# Altium integrated library Maxim Power Mgt Supervisory Circuit.IntLib: 756 symbols (part 15 of 16)
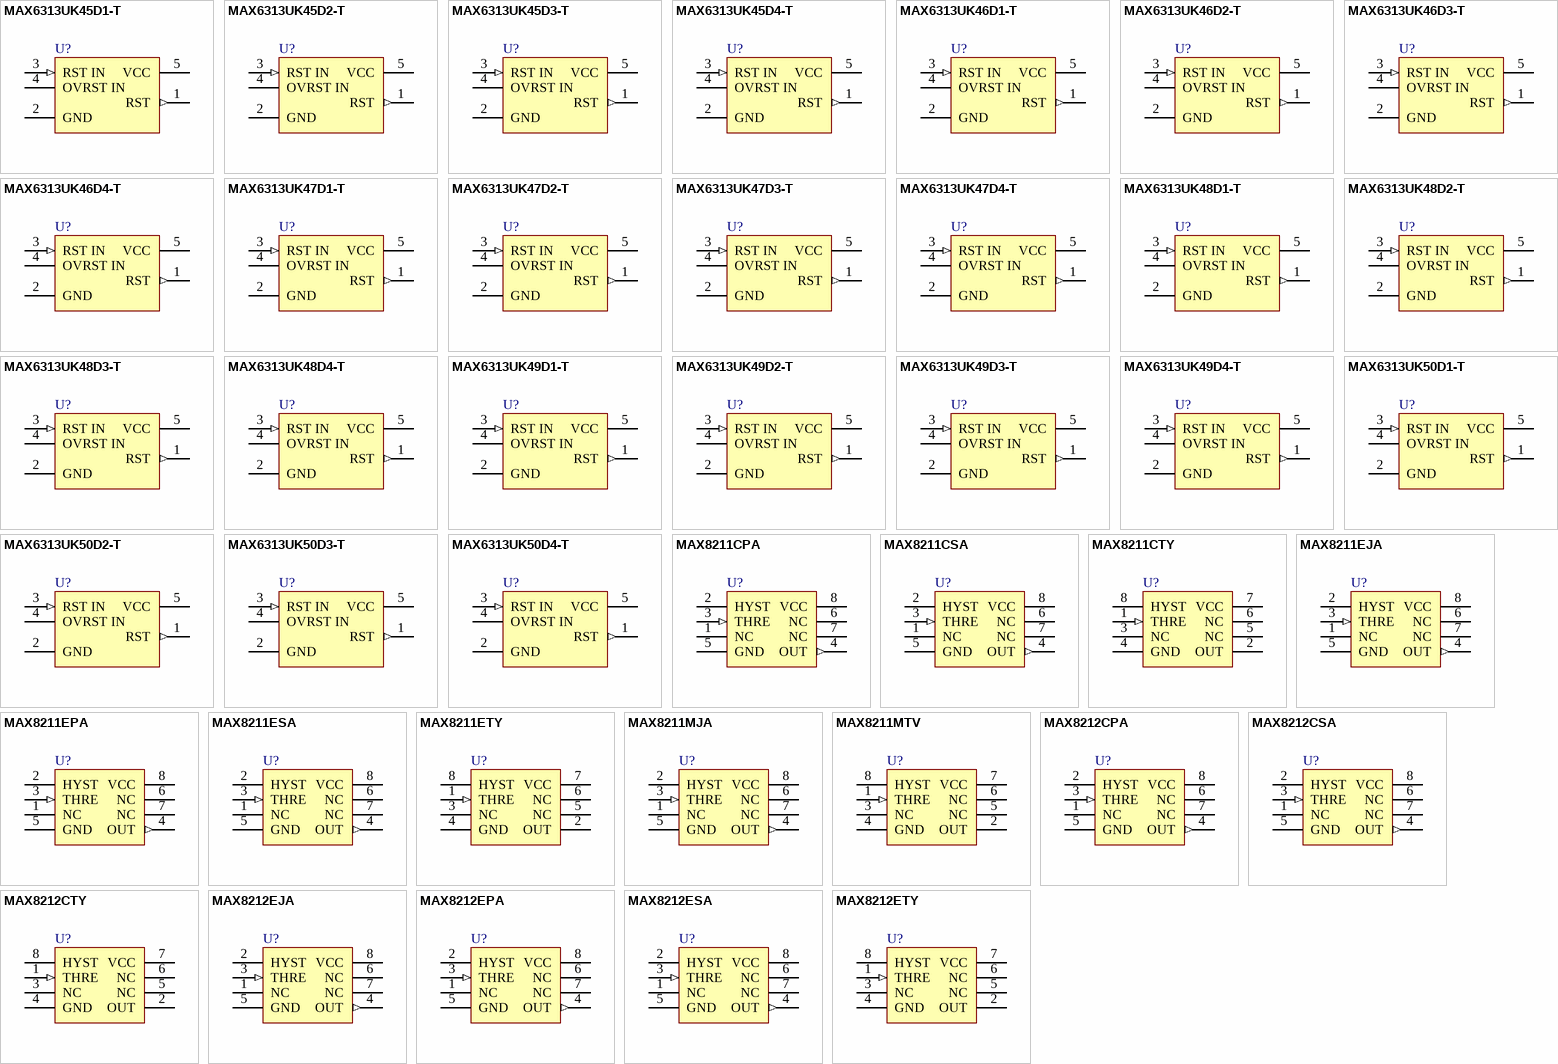
[diagram p32: symbols MAX6313UK45D1-T to MAX8212ETY]

## MAX6313UK50D4-T
designator U?
5-Pin, Multiple-Input, Programmable Reset IC; Published: 16-Jan-2001; LatestRevisionDate: 29-May-2009; LatestRevisionNote: IPC-7351 Footprint Added.; DatasheetVersion: Aug-1998; PackageVersion: revE, 2004; PackageReference: SOT23-5; Publisher: Altium Limited; PackageDescription: 5-Pin SOT-23 Package 0.95 mm Pitch, 2.8 mm Lead Span; Code_JEITA: SC-74A; Code_IPC: SOT23-5; ComponentLink1Description: Manufacturer Link; ComponentLink1URL: http://www.maxim-ic.com/; ComponentLink2Description: Datasheet; ComponentLink2URL: http://pdfserv.maxim-ic.com/en/ds/MAX6305-MAX6313.pdf
footprint SOT23-5_N (SOT23, 5-Leads, Body 2.9x1.6mm, Pitch 0.95mm, Lead Span 2.8mm, IPC Medium Density)
footprint SOT23-5_L (SOT23, 5-Leads, Body 2.9x1.6mm, Pitch 0.95mm, Lead Span 2.8mm, IPC High Density)
footprint SOT23-5_M (SOT23, 5-Leads, Body 2.9x1.6mm, Pitch 0.95mm, Lead Span 2.8mm, IPC Low Density)
pins: 1 RST (out), 2 GND (power), 3 RST IN (in), 4 OVRST IN, 5 VCC (power)

## MAX8211CPA
designator U?
Microprocessor Voltage Monitor with Programmable Voltage Detection; Published: 16-Jan-2001; LatestRevisionDate: 29-May-2009; LatestRevisionNote: Component Body Added.; DatasheetVersion: Jan-1995; PackageVersion: RevB, 21-0043; PackageReference: PA8; Publisher: Altium Limited; PackageDescription: DIP, 8-Pin, Row Spacing 7.62 mm, Pitch 2.54 mm; Code_JEDEC: MS-001-AB; ComponentLink1Description: Manufacturer Link; ComponentLink1URL: http://www.maxim-ic.com/; ComponentLink2Description: Datasheet; ComponentLink2URL: http://pdfserv.maxim-ic.com/en/ds/MAX8211-MAX8212.pdf
footprint PA8 (DIP, 8-Leads, Row Spacing 7.62mm, Pitch 2.54mm, Body 9.38x7.24mm)
3D model PA8 (DIP, 8-Pin, Row Spacing 7.62 mm, Pitch 2.54 mm)
pins: 1 NC, 2 HYST (oe), 3 THRE (in), 4 OUT (out), 5 GND (power), 6 NC, 7 NC, 8 VCC (power)

## MAX8211CSA
designator U?
Microprocessor Voltage Monitor with Programmable Voltage Detection; Published: 16-Jan-2001; LatestRevisionDate: 13-Apr-2006; LatestRevisionNote: IPC-7351 Footprint Added.; DatasheetVersion: Jan-1995; PackageReference: NSO8; Publisher: Altium Limited; PackageDescription: 8-Pin Small Outline Integrated Circuit 1.27 mm Pitch; Code_JEDEC: MS-012-AA; Code_IPC: SOIC127P600-8; ComponentLink1Description: Manufacturer Link; ComponentLink1URL: http://www.maxim-ic.com/; ComponentLink2Description: Datasheet; ComponentLink2URL: http://pdfserv.maxim-ic.com/en/ds/MAX8211-MAX8212.pdf
footprint NSO8_N (SOIC, 8-Leads, Body 4.9x3.9mm, Pitch 1.27mm, IPC Medium Density)
footprint NSO8_L (SOIC, 8-Leads, Body 4.9x3.9mm, Pitch 1.27mm, IPC High Density)
footprint NSO8_M (SOIC, 8-Leads, Body 4.9x3.9mm, Pitch 1.27mm, IPC Low Density)
3D model NSO8 (8-Pin Small Outline Integrated Circuit 1.27 mm Pitch)
pins: 1 NC, 2 HYST (oe), 3 THRE (in), 4 OUT (out), 5 GND (power), 6 NC, 7 NC, 8 VCC (power)

## MAX8211CTY
designator U?
Microprocessor Voltage Monitor with Programmable Voltage Detection; Published: 16-Jan-2001; LatestRevisionDate: 17-Jul-2002; LatestRevisionNote: Re-released for DXP Platform.; DatasheetVersion: Jan-1995; PackageVersion: 1995; PackageReference: TO-99; Publisher: Altium Limited; PackageDescription: Can; 8 Leads; Pin Circle Dia. 5.08 mm; Lead Dia. 0.48 mm (max); ComponentLink1Description: Manufacturer Link; ComponentLink1URL: http://www.maxim-ic.com/; ComponentLink2Description: Datasheet; ComponentLink2URL: http://pdfserv.maxim-ic.com/en/ds/MAX8211-MAX8212.pdf
footprint TO-99 (Can; 8 Leads; Pin Circle Dia. 5.08 mm; Lead Dia. 0.48 mm (max))
pins: 1 THRE (in), 2 OUT (oc), 3 NC, 4 GND (power), 5 NC, 6 NC, 7 VCC (power), 8 HYST (oe)

## MAX8211EJA
designator U?
Microprocessor Voltage Monitor with Programmable Voltage Detection; Published: 16-Jan-2001; LatestRevisionDate: 29-May-2009; LatestRevisionNote: Component Body Added.; DatasheetVersion: Jan-1995; PackageVersion: 1996; PackageReference: JA8; Publisher: Altium Limited; PackageDescription: DIP, 8-Pin, Row Spacing 7.62 mm, Pitch 2.54 mm; ComponentLink1Description: Manufacturer Link; ComponentLink1URL: http://www.maxim-ic.com/; ComponentLink2Description: Datasheet; ComponentLink2URL: http://pdfserv.maxim-ic.com/en/ds/MAX8211-MAX8212.pdf
footprint JA8 (DIP, 8-Leads, Row Spacing 7.62mm, Pitch 2.54mm, Body 9.91x6.73mm)
3D model PA8 (DIP, 8-Pin, Row Spacing 7.62 mm, Pitch 2.54 mm)
pins: 1 NC, 2 HYST (oe), 3 THRE (in), 4 OUT (out), 5 GND (power), 6 NC, 7 NC, 8 VCC (power)

## MAX8211EPA
designator U?
Microprocessor Voltage Monitor with Programmable Voltage Detection; Published: 16-Jan-2001; LatestRevisionDate: 29-May-2009; LatestRevisionNote: Component Body Added.; DatasheetVersion: Jan-1995; PackageVersion: RevB, 21-0043; PackageReference: PA8; Publisher: Altium Limited; PackageDescription: DIP, 8-Pin, Row Spacing 7.62 mm, Pitch 2.54 mm; Code_JEDEC: MS-001-AB; ComponentLink1Description: Manufacturer Link; ComponentLink1URL: http://www.maxim-ic.com/; ComponentLink2Description: Datasheet; ComponentLink2URL: http://pdfserv.maxim-ic.com/en/ds/MAX8211-MAX8212.pdf
footprint PA8 (DIP, 8-Leads, Row Spacing 7.62mm, Pitch 2.54mm, Body 9.38x7.24mm)
3D model PA8 (DIP, 8-Pin, Row Spacing 7.62 mm, Pitch 2.54 mm)
pins: 1 NC, 2 HYST (oe), 3 THRE (in), 4 OUT (out), 5 GND (power), 6 NC, 7 NC, 8 VCC (power)

## MAX8211ESA
designator U?
Microprocessor Voltage Monitor with Programmable Voltage Detection; Published: 16-Jan-2001; LatestRevisionDate: 13-Apr-2006; LatestRevisionNote: IPC-7351 Footprint Added.; DatasheetVersion: Jan-1995; PackageReference: NSO8; Publisher: Altium Limited; PackageDescription: 8-Pin Small Outline Integrated Circuit 1.27 mm Pitch; Code_JEDEC: MS-012-AA; Code_IPC: SOIC127P600-8; ComponentLink1Description: Manufacturer Link; ComponentLink1URL: http://www.maxim-ic.com/; ComponentLink2Description: Datasheet; ComponentLink2URL: http://pdfserv.maxim-ic.com/en/ds/MAX8211-MAX8212.pdf
footprint NSO8_N (SOIC, 8-Leads, Body 4.9x3.9mm, Pitch 1.27mm, IPC Medium Density)
footprint NSO8_L (SOIC, 8-Leads, Body 4.9x3.9mm, Pitch 1.27mm, IPC High Density)
footprint NSO8_M (SOIC, 8-Leads, Body 4.9x3.9mm, Pitch 1.27mm, IPC Low Density)
3D model NSO8 (8-Pin Small Outline Integrated Circuit 1.27 mm Pitch)
pins: 1 NC, 2 HYST (oe), 3 THRE (in), 4 OUT (out), 5 GND (power), 6 NC, 7 NC, 8 VCC (power)

## MAX8211ETY
designator U?
Microprocessor Voltage Monitor with Programmable Voltage Detection; Published: 16-Jan-2001; LatestRevisionDate: 17-Jul-2002; LatestRevisionNote: Re-released for DXP Platform.; DatasheetVersion: Jan-1995; PackageVersion: 1995; PackageReference: TO-99; Publisher: Altium Limited; PackageDescription: Can; 8 Leads; Pin Circle Dia. 5.08 mm; Lead Dia. 0.48 mm (max); ComponentLink1Description: Manufacturer Link; ComponentLink1URL: http://www.maxim-ic.com/; ComponentLink2Description: Datasheet; ComponentLink2URL: http://pdfserv.maxim-ic.com/en/ds/MAX8211-MAX8212.pdf
footprint TO-99 (Can; 8 Leads; Pin Circle Dia. 5.08 mm; Lead Dia. 0.48 mm (max))
pins: 1 THRE (in), 2 OUT (oc), 3 NC, 4 GND (power), 5 NC, 6 NC, 7 VCC (power), 8 HYST (oe)

## MAX8211MJA
designator U?
Microprocessor Voltage Monitor with Programmable Voltage Detection; Published: 16-Jan-2001; LatestRevisionDate: 29-May-2009; LatestRevisionNote: Component Body Added.; DatasheetVersion: Jan-1995; PackageVersion: 1996; PackageReference: JA8; Publisher: Altium Limited; PackageDescription: DIP, 8-Pin, Row Spacing 7.62 mm, Pitch 2.54 mm; ComponentLink1Description: Manufacturer Link; ComponentLink1URL: http://www.maxim-ic.com/; ComponentLink2Description: Datasheet; ComponentLink2URL: http://pdfserv.maxim-ic.com/en/ds/MAX8211-MAX8212.pdf
footprint JA8 (DIP, 8-Leads, Row Spacing 7.62mm, Pitch 2.54mm, Body 9.91x6.73mm)
3D model PA8 (DIP, 8-Pin, Row Spacing 7.62 mm, Pitch 2.54 mm)
pins: 1 NC, 2 HYST (oe), 3 THRE (in), 4 OUT (out), 5 GND (power), 6 NC, 7 NC, 8 VCC (power)

## MAX8211MTV
designator U?
Microprocessor Voltage Monitor with Programmable Voltage Detection; Published: 16-Jan-2001; LatestRevisionDate: 17-Jul-2002; LatestRevisionNote: Re-released for DXP Platform.; DatasheetVersion: Jan-1995; PackageVersion: 1995; PackageReference: TO-99; Publisher: Altium Limited; PackageDescription: Can; 8 Leads; Pin Circle Dia. 5.08 mm; Lead Dia. 0.48 mm (max); ComponentLink1Description: Manufacturer Link; ComponentLink1URL: http://www.maxim-ic.com/; ComponentLink2Description: Datasheet; ComponentLink2URL: http://pdfserv.maxim-ic.com/en/ds/MAX8211-MAX8212.pdf
footprint TO-99 (Can; 8 Leads; Pin Circle Dia. 5.08 mm; Lead Dia. 0.48 mm (max))
pins: 1 THRE (in), 2 OUT (oc), 3 NC, 4 GND (power), 5 NC, 6 NC, 7 VCC (power), 8 HYST (oe)

## MAX8212CPA
designator U?
Microprocessor Voltage Monitor with Programmable Voltage Detection; Published: 16-Jan-2001; LatestRevisionDate: 29-May-2009; LatestRevisionNote: Component Body Added.; DatasheetVersion: Jan-1995; PackageVersion: RevB, 21-0043; PackageReference: PA8; Publisher: Altium Limited; PackageDescription: DIP, 8-Pin, Row Spacing 7.62 mm, Pitch 2.54 mm; Code_JEDEC: MS-001-AB; ComponentLink1Description: Manufacturer Link; ComponentLink1URL: http://www.maxim-ic.com/; ComponentLink2Description: Datasheet; ComponentLink2URL: http://pdfserv.maxim-ic.com/en/ds/MAX8211-MAX8212.pdf
footprint PA8 (DIP, 8-Leads, Row Spacing 7.62mm, Pitch 2.54mm, Body 9.38x7.24mm)
3D model PA8 (DIP, 8-Pin, Row Spacing 7.62 mm, Pitch 2.54 mm)
pins: 1 NC, 2 HYST (oe), 3 THRE (in), 4 OUT (out), 5 GND (power), 6 NC, 7 NC, 8 VCC (power)

## MAX8212CSA
designator U?
Microprocessor Voltage Monitor with Programmable Voltage Detection; Published: 16-Jan-2001; LatestRevisionDate: 13-Apr-2006; LatestRevisionNote: IPC-7351 Footprint Added.; DatasheetVersion: Jan-1995; PackageReference: NSO8; Publisher: Altium Limited; PackageDescription: 8-Pin Small Outline Integrated Circuit 1.27 mm Pitch; Code_JEDEC: MS-012-AA; Code_IPC: SOIC127P600-8; ComponentLink1Description: Manufacturer Link; ComponentLink1URL: http://www.maxim-ic.com/; ComponentLink2Description: Datasheet; ComponentLink2URL: http://pdfserv.maxim-ic.com/en/ds/MAX8211-MAX8212.pdf
footprint NSO8_N (SOIC, 8-Leads, Body 4.9x3.9mm, Pitch 1.27mm, IPC Medium Density)
footprint NSO8_L (SOIC, 8-Leads, Body 4.9x3.9mm, Pitch 1.27mm, IPC High Density)
footprint NSO8_M (SOIC, 8-Leads, Body 4.9x3.9mm, Pitch 1.27mm, IPC Low Density)
3D model NSO8 (8-Pin Small Outline Integrated Circuit 1.27 mm Pitch)
pins: 1 NC, 2 HYST (oe), 3 THRE (in), 4 OUT (out), 5 GND (power), 6 NC, 7 NC, 8 VCC (power)

## MAX8212CTY
designator U?
Microprocessor Voltage Monitor with Programmable Voltage Detection; Published: 16-Jan-2001; LatestRevisionDate: 17-Jul-2002; LatestRevisionNote: Re-released for DXP Platform.; DatasheetVersion: Jan-1995; PackageVersion: 1995; PackageReference: TO-99; Publisher: Altium Limited; PackageDescription: Can; 8 Leads; Pin Circle Dia. 5.08 mm; Lead Dia. 0.48 mm (max); ComponentLink1Description: Manufacturer Link; ComponentLink1URL: http://www.maxim-ic.com/; ComponentLink2Description: Datasheet; ComponentLink2URL: http://pdfserv.maxim-ic.com/en/ds/MAX8211-MAX8212.pdf
footprint TO-99 (Can; 8 Leads; Pin Circle Dia. 5.08 mm; Lead Dia. 0.48 mm (max))
pins: 1 THRE (in), 2 OUT (oc), 3 NC, 4 GND (power), 5 NC, 6 NC, 7 VCC (power), 8 HYST (oe)

## MAX8212EJA
designator U?
Microprocessor Voltage Monitor with Programmable Voltage Detection; Published: 16-Jan-2001; LatestRevisionDate: 29-May-2009; LatestRevisionNote: Component Body Added.; DatasheetVersion: Jan-1995; PackageVersion: 1996; PackageReference: JA8; Publisher: Altium Limited; PackageDescription: DIP, 8-Pin, Row Spacing 7.62 mm, Pitch 2.54 mm; ComponentLink1Description: Manufacturer Link; ComponentLink1URL: http://www.maxim-ic.com/; ComponentLink2Description: Datasheet; ComponentLink2URL: http://pdfserv.maxim-ic.com/en/ds/MAX8211-MAX8212.pdf
footprint JA8 (DIP, 8-Leads, Row Spacing 7.62mm, Pitch 2.54mm, Body 9.91x6.73mm)
3D model PA8 (DIP, 8-Pin, Row Spacing 7.62 mm, Pitch 2.54 mm)
pins: 1 NC, 2 HYST (oe), 3 THRE (in), 4 OUT (out), 5 GND (power), 6 NC, 7 NC, 8 VCC (power)

## MAX8212EPA
designator U?
Microprocessor Voltage Monitor with Programmable Voltage Detection; Published: 16-Jan-2001; LatestRevisionDate: 29-May-2009; LatestRevisionNote: Component Body Added.; DatasheetVersion: Jan-1995; PackageVersion: RevB, 21-0043; PackageReference: PA8; Publisher: Altium Limited; PackageDescription: DIP, 8-Pin, Row Spacing 7.62 mm, Pitch 2.54 mm; Code_JEDEC: MS-001-AB; ComponentLink1Description: Manufacturer Link; ComponentLink1URL: http://www.maxim-ic.com/; ComponentLink2Description: Datasheet; ComponentLink2URL: http://pdfserv.maxim-ic.com/en/ds/MAX8211-MAX8212.pdf
footprint PA8 (DIP, 8-Leads, Row Spacing 7.62mm, Pitch 2.54mm, Body 9.38x7.24mm)
3D model PA8 (DIP, 8-Pin, Row Spacing 7.62 mm, Pitch 2.54 mm)
pins: 1 NC, 2 HYST (oe), 3 THRE (in), 4 OUT (out), 5 GND (power), 6 NC, 7 NC, 8 VCC (power)

## MAX8212ESA
designator U?
Microprocessor Voltage Monitor with Programmable Voltage Detection; Published: 16-Jan-2001; LatestRevisionDate: 13-Apr-2006; LatestRevisionNote: IPC-7351 Footprint Added.; DatasheetVersion: Jan-1995; PackageReference: NSO8; Publisher: Altium Limited; PackageDescription: 8-Pin Small Outline Integrated Circuit 1.27 mm Pitch; Code_JEDEC: MS-012-AA; Code_IPC: SOIC127P600-8; ComponentLink1Description: Manufacturer Link; ComponentLink1URL: http://www.maxim-ic.com/; ComponentLink2Description: Datasheet; ComponentLink2URL: http://pdfserv.maxim-ic.com/en/ds/MAX8211-MAX8212.pdf
footprint NSO8_N (SOIC, 8-Leads, Body 4.9x3.9mm, Pitch 1.27mm, IPC Medium Density)
footprint NSO8_L (SOIC, 8-Leads, Body 4.9x3.9mm, Pitch 1.27mm, IPC High Density)
footprint NSO8_M (SOIC, 8-Leads, Body 4.9x3.9mm, Pitch 1.27mm, IPC Low Density)
3D model NSO8 (8-Pin Small Outline Integrated Circuit 1.27 mm Pitch)
pins: 1 NC, 2 HYST (oe), 3 THRE (in), 4 OUT (out), 5 GND (power), 6 NC, 7 NC, 8 VCC (power)

## MAX8212ETY
designator U?
Microprocessor Voltage Monitor with Programmable Voltage Detection; Published: 16-Jan-2001; LatestRevisionDate: 17-Jul-2002; LatestRevisionNote: Re-released for DXP Platform.; DatasheetVersion: Jan-1995; PackageVersion: 1995; PackageReference: TO-99; Publisher: Altium Limited; PackageDescription: Can; 8 Leads; Pin Circle Dia. 5.08 mm; Lead Dia. 0.48 mm (max); ComponentLink1Description: Manufacturer Link; ComponentLink1URL: http://www.maxim-ic.com/; ComponentLink2Description: Datasheet; ComponentLink2URL: http://pdfserv.maxim-ic.com/en/ds/MAX8211-MAX8212.pdf
footprint TO-99 (Can; 8 Leads; Pin Circle Dia. 5.08 mm; Lead Dia. 0.48 mm (max))
pins: 1 THRE (in), 2 OUT (oc), 3 NC, 4 GND (power), 5 NC, 6 NC, 7 VCC (power), 8 HYST (oe)

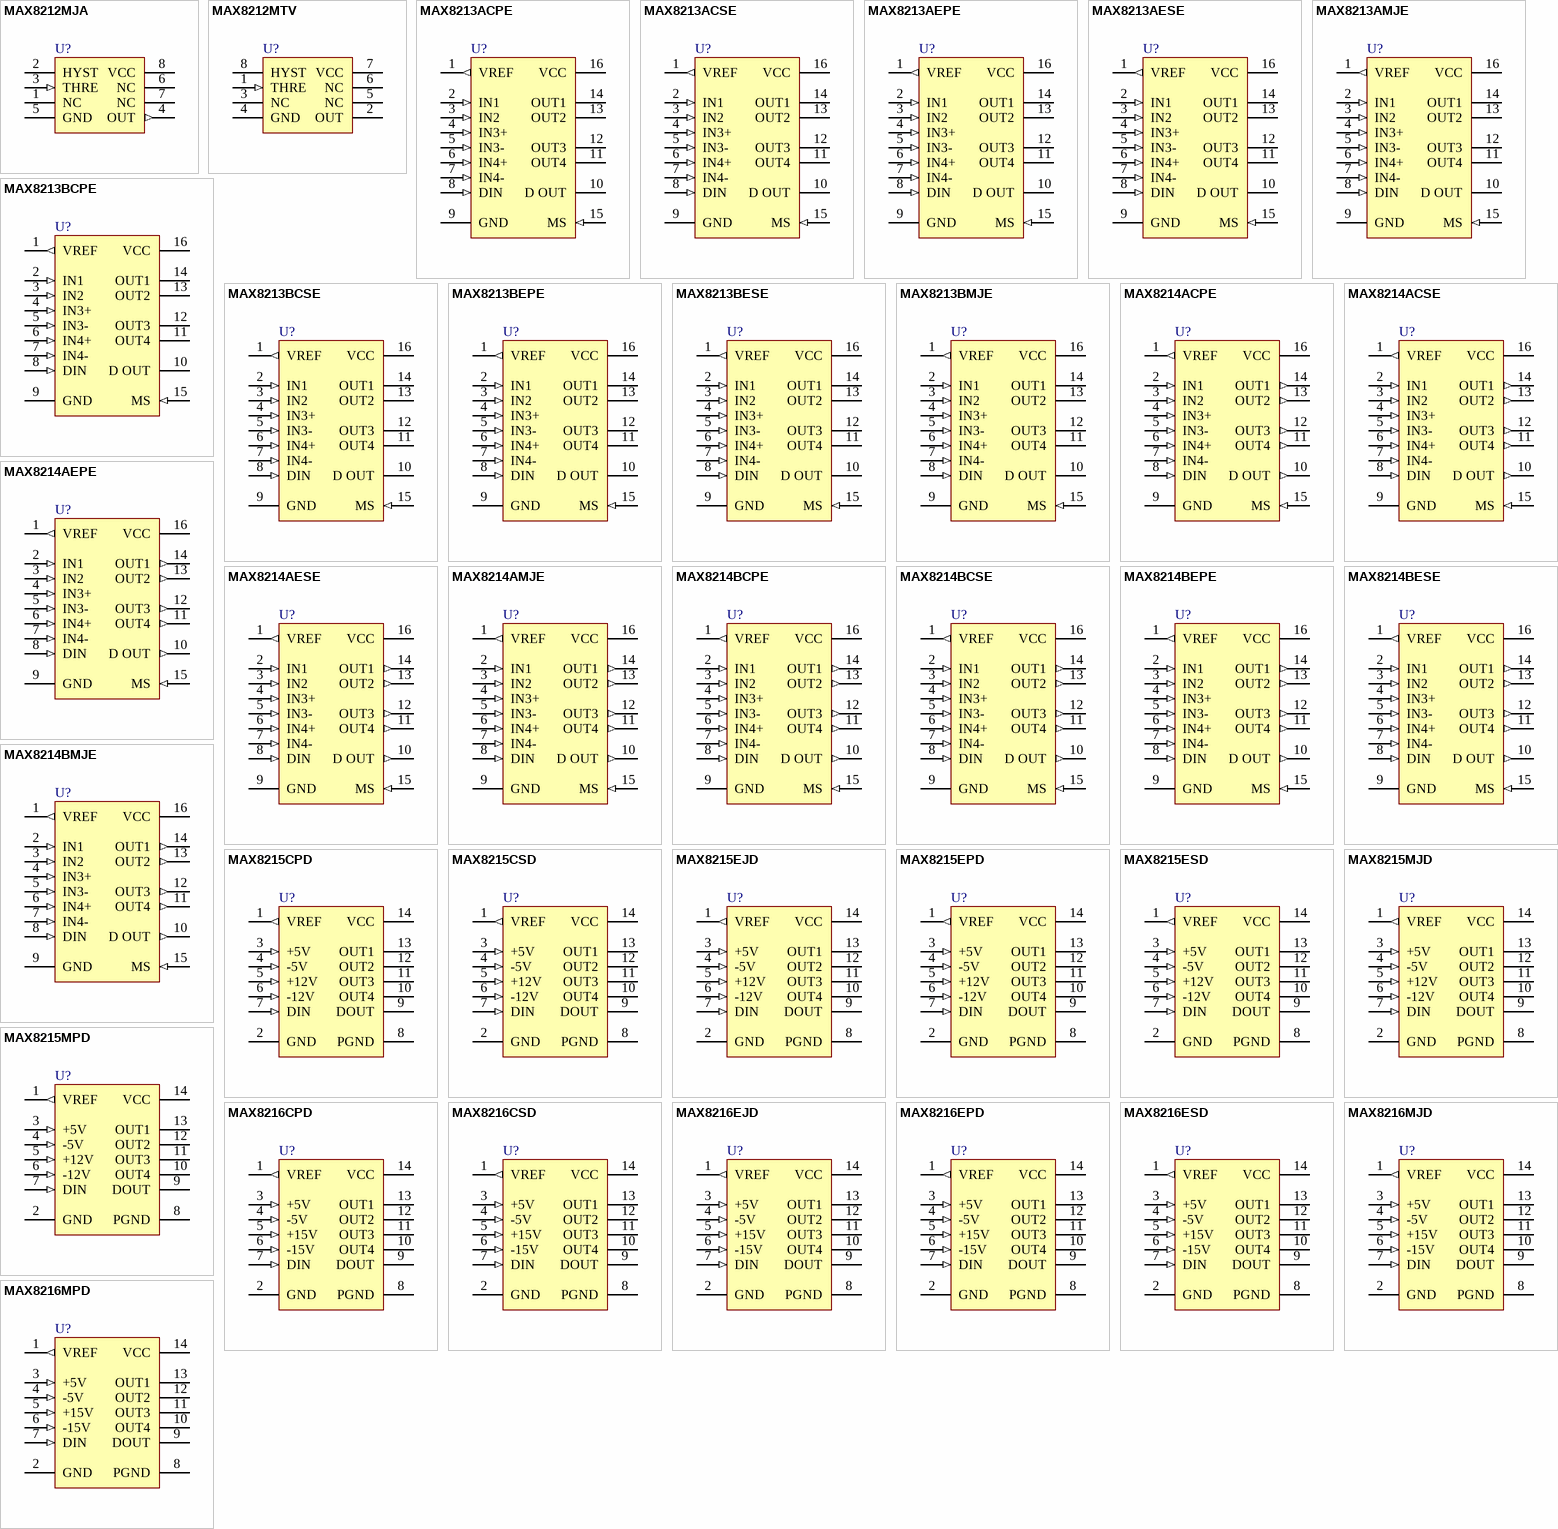
[diagram p18: symbols MAX8212MJA to MAX8216MPD]

## MAX8212MJA
designator U?
Microprocessor Voltage Monitor with Programmable Voltage Detection; Published: 16-Jan-2001; LatestRevisionDate: 29-May-2009; LatestRevisionNote: Component Body Added.; DatasheetVersion: Jan-1995; PackageVersion: 1996; PackageReference: JA8; Publisher: Altium Limited; PackageDescription: DIP, 8-Pin, Row Spacing 7.62 mm, Pitch 2.54 mm; ComponentLink1Description: Manufacturer Link; ComponentLink1URL: http://www.maxim-ic.com/; ComponentLink2Description: Datasheet; ComponentLink2URL: http://pdfserv.maxim-ic.com/en/ds/MAX8211-MAX8212.pdf
footprint JA8 (DIP, 8-Leads, Row Spacing 7.62mm, Pitch 2.54mm, Body 9.91x6.73mm)
3D model PA8 (DIP, 8-Pin, Row Spacing 7.62 mm, Pitch 2.54 mm)
pins: 1 NC, 2 HYST (oe), 3 THRE (in), 4 OUT (out), 5 GND (power), 6 NC, 7 NC, 8 VCC (power)

## MAX8212MTV
designator U?
Microprocessor Voltage Monitor with Programmable Voltage Detection; Published: 16-Jan-2001; LatestRevisionDate: 17-Jul-2002; LatestRevisionNote: Re-released for DXP Platform.; DatasheetVersion: Jan-1995; PackageVersion: 1995; PackageReference: TO-99; Publisher: Altium Limited; PackageDescription: Can; 8 Leads; Pin Circle Dia. 5.08 mm; Lead Dia. 0.48 mm (max); ComponentLink1Description: Manufacturer Link; ComponentLink1URL: http://www.maxim-ic.com/; ComponentLink2Description: Datasheet; ComponentLink2URL: http://pdfserv.maxim-ic.com/en/ds/MAX8211-MAX8212.pdf
footprint TO-99 (Can; 8 Leads; Pin Circle Dia. 5.08 mm; Lead Dia. 0.48 mm (max))
pins: 1 THRE (in), 2 OUT (oc), 3 NC, 4 GND (power), 5 NC, 6 NC, 7 VCC (power), 8 HYST (oe)

## MAX8213ACPE
designator U?
Five Universal Voltage Monitors-Complete Microprocessor Voltage Monitoring; Published: 16-Jan-2001; LatestRevisionDate: 29-May-2009; LatestRevisionNote: Component Body Added.; DatasheetVersion: Jul-1993; PackageVersion: 1997; PackageReference: PE16A; Publisher: Altium Limited; PackageDescription: DIP, 16-Pin, Row Spacing 7.62 mm, Pitch 2.54 mm; Code_JEDEC: MS-001-BB; ComponentLink1Description: Manufacturer Link; ComponentLink1URL: http://www.maxim-ic.com/; ComponentLink2Description: Datasheet; ComponentLink2URL: http://pdfserv.maxim-ic.com/en/ds/MAX8213-MAX8214.pdf
footprint PE16A (DIP, 16-Leads, Row Spacing 7.62mm, Pitch 2.54mm, Body 19.18x6.99mm)
3D model PE16 (DIP, 16-Pin, Row Spacing 7.62 mm, Pitch 2.54 mm)
pins: 1 VREF (out), 2 IN1 (in), 3 IN2 (in), 4 IN3+ (in), 5 IN3- (in), 6 IN4+ (in), 7 IN4- (in), 8 DIN (in), 9 GND (power), 10 D OUT (oc), 11 OUT4 (oc), 12 OUT3 (oc), 13 OUT2 (oc), 14 OUT1 (oc), 15 MS (in), 16 VCC (power)

## MAX8213ACSE
designator U?
Five Universal Voltage Monitors-Complete Microprocessor Voltage Monitoring; Published: 16-Jan-2001; LatestRevisionDate: 13-Apr-2006; LatestRevisionNote: IPC-7351 Footprint Added.; DatasheetVersion: Jul-1993; PackageReference: NSO16; Publisher: Altium Limited; PackageDescription: 16-Pin Small Outline Integrated Circuit 1.27 mm Pitch; Code_JEDEC: MS-012-AC; Code_IPC: SOIC127P600-16; ComponentLink1Description: Manufacturer Link; ComponentLink1URL: http://www.maxim-ic.com/; ComponentLink2Description: Datasheet; ComponentLink2URL: http://pdfserv.maxim-ic.com/en/ds/MAX8213-MAX8214.pdf
footprint NSO16_N (SOIC, 16-Leads, Body 9.9x3.9mm, Pitch 1.27mm, IPC Medium Density)
footprint NSO16_L (SOIC, 16-Leads, Body 9.9x3.9mm, Pitch 1.27mm, IPC High Density)
footprint NSO16_M (SOIC, 16-Leads, Body 9.9x3.9mm, Pitch 1.27mm, IPC Low Density)
3D model NSO16 (16-Pin Small Outline Integrated Circuit 1.27 mm Pitch)
pins: 1 VREF (out), 2 IN1 (in), 3 IN2 (in), 4 IN3+ (in), 5 IN3- (in), 6 IN4+ (in), 7 IN4- (in), 8 DIN (in), 9 GND (power), 10 D OUT (oc), 11 OUT4 (oc), 12 OUT3 (oc), 13 OUT2 (oc), 14 OUT1 (oc), 15 MS (in), 16 VCC (power)

## MAX8213AEPE
designator U?
Five Universal Voltage Monitors-Complete Microprocessor Voltage Monitoring; Published: 16-Jan-2001; LatestRevisionDate: 29-May-2009; LatestRevisionNote: Component Body Added.; DatasheetVersion: Jul-1993; PackageVersion: 1997; PackageReference: PE16A; Publisher: Altium Limited; PackageDescription: DIP, 16-Pin, Row Spacing 7.62 mm, Pitch 2.54 mm; Code_JEDEC: MS-001-BB; ComponentLink1Description: Manufacturer Link; ComponentLink1URL: http://www.maxim-ic.com/; ComponentLink2Description: Datasheet; ComponentLink2URL: http://pdfserv.maxim-ic.com/en/ds/MAX8213-MAX8214.pdf
footprint PE16A (DIP, 16-Leads, Row Spacing 7.62mm, Pitch 2.54mm, Body 19.18x6.99mm)
3D model PE16 (DIP, 16-Pin, Row Spacing 7.62 mm, Pitch 2.54 mm)
pins: 1 VREF (out), 2 IN1 (in), 3 IN2 (in), 4 IN3+ (in), 5 IN3- (in), 6 IN4+ (in), 7 IN4- (in), 8 DIN (in), 9 GND (power), 10 D OUT (oc), 11 OUT4 (oc), 12 OUT3 (oc), 13 OUT2 (oc), 14 OUT1 (oc), 15 MS (in), 16 VCC (power)

## MAX8213AESE
designator U?
Five Universal Voltage Monitors-Complete Microprocessor Voltage Monitoring; Published: 16-Jan-2001; LatestRevisionDate: 13-Apr-2006; LatestRevisionNote: IPC-7351 Footprint Added.; DatasheetVersion: Jul-1993; PackageReference: NSO16; Publisher: Altium Limited; PackageDescription: 16-Pin Small Outline Integrated Circuit 1.27 mm Pitch; Code_JEDEC: MS-012-AC; Code_IPC: SOIC127P600-16; ComponentLink1Description: Manufacturer Link; ComponentLink1URL: http://www.maxim-ic.com/; ComponentLink2Description: Datasheet; ComponentLink2URL: http://pdfserv.maxim-ic.com/en/ds/MAX8213-MAX8214.pdf
footprint NSO16_N (SOIC, 16-Leads, Body 9.9x3.9mm, Pitch 1.27mm, IPC Medium Density)
footprint NSO16_L (SOIC, 16-Leads, Body 9.9x3.9mm, Pitch 1.27mm, IPC High Density)
footprint NSO16_M (SOIC, 16-Leads, Body 9.9x3.9mm, Pitch 1.27mm, IPC Low Density)
3D model NSO16 (16-Pin Small Outline Integrated Circuit 1.27 mm Pitch)
pins: 1 VREF (out), 2 IN1 (in), 3 IN2 (in), 4 IN3+ (in), 5 IN3- (in), 6 IN4+ (in), 7 IN4- (in), 8 DIN (in), 9 GND (power), 10 D OUT (oc), 11 OUT4 (oc), 12 OUT3 (oc), 13 OUT2 (oc), 14 OUT1 (oc), 15 MS (in), 16 VCC (power)

## MAX8213AMJE
designator U?
Five Universal Voltage Monitors-Complete Microprocessor Voltage Monitoring; Published: 16-Jan-2001; LatestRevisionDate: 29-May-2009; LatestRevisionNote: Component Body Added.; DatasheetVersion: Jul-1993; PackageVersion: 1996; PackageReference: JE16; Publisher: Altium Limited; PackageDescription: DIP, 16-Pin, Row Spacing 7.62 mm, Pitch 2.54 mm; ComponentLink1Description: Manufacturer Link; ComponentLink1URL: http://www.maxim-ic.com/; ComponentLink2Description: Datasheet; ComponentLink2URL: http://pdfserv.maxim-ic.com/en/ds/MAX8213-MAX8214.pdf
footprint JE16 (DIP, 16-Leads, Row Spacing 7.62mm, Pitch 2.54mm, Body 20.37x6.73mm)
3D model JE16 (DIP, 16-Pin, Row Spacing 7.62 mm, Pitch 2.54 mm)
pins: 1 VREF (out), 2 IN1 (in), 3 IN2 (in), 4 IN3+ (in), 5 IN3- (in), 6 IN4+ (in), 7 IN4- (in), 8 DIN (in), 9 GND (power), 10 D OUT (oc), 11 OUT4 (oc), 12 OUT3 (oc), 13 OUT2 (oc), 14 OUT1 (oc), 15 MS (in), 16 VCC (power)

## MAX8213BCPE
designator U?
Five Universal Voltage Monitors-Complete Microprocessor Voltage Monitoring; Published: 16-Jan-2001; LatestRevisionDate: 29-May-2009; LatestRevisionNote: Component Body Added.; DatasheetVersion: Jul-1993; PackageVersion: 1997; PackageReference: PE16A; Publisher: Altium Limited; PackageDescription: DIP, 16-Pin, Row Spacing 7.62 mm, Pitch 2.54 mm; Code_JEDEC: MS-001-BB; ComponentLink1Description: Manufacturer Link; ComponentLink1URL: http://www.maxim-ic.com/; ComponentLink2Description: Datasheet; ComponentLink2URL: http://pdfserv.maxim-ic.com/en/ds/MAX8213-MAX8214.pdf
footprint PE16A (DIP, 16-Leads, Row Spacing 7.62mm, Pitch 2.54mm, Body 19.18x6.99mm)
3D model PE16 (DIP, 16-Pin, Row Spacing 7.62 mm, Pitch 2.54 mm)
pins: 1 VREF (out), 2 IN1 (in), 3 IN2 (in), 4 IN3+ (in), 5 IN3- (in), 6 IN4+ (in), 7 IN4- (in), 8 DIN (in), 9 GND (power), 10 D OUT (oc), 11 OUT4 (oc), 12 OUT3 (oc), 13 OUT2 (oc), 14 OUT1 (oc), 15 MS (in), 16 VCC (power)

## MAX8213BCSE
designator U?
Five Universal Voltage Monitors-Complete Microprocessor Voltage Monitoring; Published: 16-Jan-2001; LatestRevisionDate: 13-Apr-2006; LatestRevisionNote: IPC-7351 Footprint Added.; DatasheetVersion: Jul-1993; PackageReference: NSO16; Publisher: Altium Limited; PackageDescription: 16-Pin Small Outline Integrated Circuit 1.27 mm Pitch; Code_JEDEC: MS-012-AC; Code_IPC: SOIC127P600-16; ComponentLink1Description: Manufacturer Link; ComponentLink1URL: http://www.maxim-ic.com/; ComponentLink2Description: Datasheet; ComponentLink2URL: http://pdfserv.maxim-ic.com/en/ds/MAX8213-MAX8214.pdf
footprint NSO16_N (SOIC, 16-Leads, Body 9.9x3.9mm, Pitch 1.27mm, IPC Medium Density)
footprint NSO16_L (SOIC, 16-Leads, Body 9.9x3.9mm, Pitch 1.27mm, IPC High Density)
footprint NSO16_M (SOIC, 16-Leads, Body 9.9x3.9mm, Pitch 1.27mm, IPC Low Density)
3D model NSO16 (16-Pin Small Outline Integrated Circuit 1.27 mm Pitch)
pins: 1 VREF (out), 2 IN1 (in), 3 IN2 (in), 4 IN3+ (in), 5 IN3- (in), 6 IN4+ (in), 7 IN4- (in), 8 DIN (in), 9 GND (power), 10 D OUT (oc), 11 OUT4 (oc), 12 OUT3 (oc), 13 OUT2 (oc), 14 OUT1 (oc), 15 MS (in), 16 VCC (power)

## MAX8213BEPE
designator U?
Five Universal Voltage Monitors-Complete Microprocessor Voltage Monitoring; Published: 16-Jan-2001; LatestRevisionDate: 29-May-2009; LatestRevisionNote: Component Body Added.; DatasheetVersion: Jul-1993; PackageVersion: 1997; PackageReference: PE16A; Publisher: Altium Limited; PackageDescription: DIP, 16-Pin, Row Spacing 7.62 mm, Pitch 2.54 mm; Code_JEDEC: MS-001-BB; ComponentLink1Description: Manufacturer Link; ComponentLink1URL: http://www.maxim-ic.com/; ComponentLink2Description: Datasheet; ComponentLink2URL: http://pdfserv.maxim-ic.com/en/ds/MAX8213-MAX8214.pdf
footprint PE16A (DIP, 16-Leads, Row Spacing 7.62mm, Pitch 2.54mm, Body 19.18x6.99mm)
3D model PE16 (DIP, 16-Pin, Row Spacing 7.62 mm, Pitch 2.54 mm)
pins: 1 VREF (out), 2 IN1 (in), 3 IN2 (in), 4 IN3+ (in), 5 IN3- (in), 6 IN4+ (in), 7 IN4- (in), 8 DIN (in), 9 GND (power), 10 D OUT (oc), 11 OUT4 (oc), 12 OUT3 (oc), 13 OUT2 (oc), 14 OUT1 (oc), 15 MS (in), 16 VCC (power)

## MAX8213BESE
designator U?
Five Universal Voltage Monitors-Complete Microprocessor Voltage Monitoring; Published: 16-Jan-2001; LatestRevisionDate: 13-Apr-2006; LatestRevisionNote: IPC-7351 Footprint Added.; DatasheetVersion: Jul-1993; PackageReference: NSO16; Publisher: Altium Limited; PackageDescription: 16-Pin Small Outline Integrated Circuit 1.27 mm Pitch; Code_JEDEC: MS-012-AC; Code_IPC: SOIC127P600-16; ComponentLink1Description: Manufacturer Link; ComponentLink1URL: http://www.maxim-ic.com/; ComponentLink2Description: Datasheet; ComponentLink2URL: http://pdfserv.maxim-ic.com/en/ds/MAX8213-MAX8214.pdf
footprint NSO16_N (SOIC, 16-Leads, Body 9.9x3.9mm, Pitch 1.27mm, IPC Medium Density)
footprint NSO16_L (SOIC, 16-Leads, Body 9.9x3.9mm, Pitch 1.27mm, IPC High Density)
footprint NSO16_M (SOIC, 16-Leads, Body 9.9x3.9mm, Pitch 1.27mm, IPC Low Density)
3D model NSO16 (16-Pin Small Outline Integrated Circuit 1.27 mm Pitch)
pins: 1 VREF (out), 2 IN1 (in), 3 IN2 (in), 4 IN3+ (in), 5 IN3- (in), 6 IN4+ (in), 7 IN4- (in), 8 DIN (in), 9 GND (power), 10 D OUT (oc), 11 OUT4 (oc), 12 OUT3 (oc), 13 OUT2 (oc), 14 OUT1 (oc), 15 MS (in), 16 VCC (power)

## MAX8213BMJE
designator U?
Five Universal Voltage Monitors-Complete Microprocessor Voltage Monitoring; Published: 16-Jan-2001; LatestRevisionDate: 29-May-2009; LatestRevisionNote: Component Body Added.; DatasheetVersion: Jul-1993; PackageVersion: 1996; PackageReference: JE16; Publisher: Altium Limited; PackageDescription: DIP, 16-Pin, Row Spacing 7.62 mm, Pitch 2.54 mm; ComponentLink1Description: Manufacturer Link; ComponentLink1URL: http://www.maxim-ic.com/; ComponentLink2Description: Datasheet; ComponentLink2URL: http://pdfserv.maxim-ic.com/en/ds/MAX8213-MAX8214.pdf
footprint JE16 (DIP, 16-Leads, Row Spacing 7.62mm, Pitch 2.54mm, Body 20.37x6.73mm)
3D model JE16 (DIP, 16-Pin, Row Spacing 7.62 mm, Pitch 2.54 mm)
pins: 1 VREF (out), 2 IN1 (in), 3 IN2 (in), 4 IN3+ (in), 5 IN3- (in), 6 IN4+ (in), 7 IN4- (in), 8 DIN (in), 9 GND (power), 10 D OUT (oc), 11 OUT4 (oc), 12 OUT3 (oc), 13 OUT2 (oc), 14 OUT1 (oc), 15 MS (in), 16 VCC (power)

## MAX8214ACPE
designator U?
Five Universal Voltage Monitors-Complete Microprocessor Voltage Monitoring; Published: 16-Jan-2001; LatestRevisionDate: 29-May-2009; LatestRevisionNote: Component Body Added.; DatasheetVersion: Jul-1993; PackageVersion: 1997; PackageReference: PE16A; Publisher: Altium Limited; PackageDescription: DIP, 16-Pin, Row Spacing 7.62 mm, Pitch 2.54 mm; Code_JEDEC: MS-001-BB; ComponentLink1Description: Manufacturer Link; ComponentLink1URL: http://www.maxim-ic.com/; ComponentLink2Description: Datasheet; ComponentLink2URL: http://pdfserv.maxim-ic.com/en/ds/MAX8213-MAX8214.pdf
footprint PE16A (DIP, 16-Leads, Row Spacing 7.62mm, Pitch 2.54mm, Body 19.18x6.99mm)
3D model PE16 (DIP, 16-Pin, Row Spacing 7.62 mm, Pitch 2.54 mm)
pins: 1 VREF (out), 2 IN1 (in), 3 IN2 (in), 4 IN3+ (in), 5 IN3- (in), 6 IN4+ (in), 7 IN4- (in), 8 DIN (in), 9 GND (power), 10 D OUT (out), 11 OUT4 (out), 12 OUT3 (out), 13 OUT2 (out), 14 OUT1 (out), 15 MS (in), 16 VCC (power)

## MAX8214ACSE
designator U?
Five Universal Voltage Monitors-Complete Microprocessor Voltage Monitoring; Published: 16-Jan-2001; LatestRevisionDate: 13-Apr-2006; LatestRevisionNote: IPC-7351 Footprint Added.; DatasheetVersion: Jul-1993; PackageReference: NSO16; Publisher: Altium Limited; PackageDescription: 16-Pin Small Outline Integrated Circuit 1.27 mm Pitch; Code_JEDEC: MS-012-AC; Code_IPC: SOIC127P600-16; ComponentLink1Description: Manufacturer Link; ComponentLink1URL: http://www.maxim-ic.com/; ComponentLink2Description: Datasheet; ComponentLink2URL: http://pdfserv.maxim-ic.com/en/ds/MAX8213-MAX8214.pdf
footprint NSO16_N (SOIC, 16-Leads, Body 9.9x3.9mm, Pitch 1.27mm, IPC Medium Density)
footprint NSO16_L (SOIC, 16-Leads, Body 9.9x3.9mm, Pitch 1.27mm, IPC High Density)
footprint NSO16_M (SOIC, 16-Leads, Body 9.9x3.9mm, Pitch 1.27mm, IPC Low Density)
3D model NSO16 (16-Pin Small Outline Integrated Circuit 1.27 mm Pitch)
pins: 1 VREF (out), 2 IN1 (in), 3 IN2 (in), 4 IN3+ (in), 5 IN3- (in), 6 IN4+ (in), 7 IN4- (in), 8 DIN (in), 9 GND (power), 10 D OUT (out), 11 OUT4 (out), 12 OUT3 (out), 13 OUT2 (out), 14 OUT1 (out), 15 MS (in), 16 VCC (power)

## MAX8214AEPE
designator U?
Five Universal Voltage Monitors-Complete Microprocessor Voltage Monitoring; Published: 16-Jan-2001; LatestRevisionDate: 29-May-2009; LatestRevisionNote: Component Body Added.; DatasheetVersion: Jul-1993; PackageVersion: 1997; PackageReference: PE16A; Publisher: Altium Limited; PackageDescription: DIP, 16-Pin, Row Spacing 7.62 mm, Pitch 2.54 mm; Code_JEDEC: MS-001-BB; ComponentLink1Description: Manufacturer Link; ComponentLink1URL: http://www.maxim-ic.com/; ComponentLink2Description: Datasheet; ComponentLink2URL: http://pdfserv.maxim-ic.com/en/ds/MAX8213-MAX8214.pdf
footprint PE16A (DIP, 16-Leads, Row Spacing 7.62mm, Pitch 2.54mm, Body 19.18x6.99mm)
3D model PE16 (DIP, 16-Pin, Row Spacing 7.62 mm, Pitch 2.54 mm)
pins: 1 VREF (out), 2 IN1 (in), 3 IN2 (in), 4 IN3+ (in), 5 IN3- (in), 6 IN4+ (in), 7 IN4- (in), 8 DIN (in), 9 GND (power), 10 D OUT (out), 11 OUT4 (out), 12 OUT3 (out), 13 OUT2 (out), 14 OUT1 (out), 15 MS (in), 16 VCC (power)

## MAX8214AESE
designator U?
Five Universal Voltage Monitors-Complete Microprocessor Voltage Monitoring; Published: 16-Jan-2001; LatestRevisionDate: 13-Apr-2006; LatestRevisionNote: IPC-7351 Footprint Added.; DatasheetVersion: Jul-1993; PackageReference: NSO16; Publisher: Altium Limited; PackageDescription: 16-Pin Small Outline Integrated Circuit 1.27 mm Pitch; Code_JEDEC: MS-012-AC; Code_IPC: SOIC127P600-16; ComponentLink1Description: Manufacturer Link; ComponentLink1URL: http://www.maxim-ic.com/; ComponentLink2Description: Datasheet; ComponentLink2URL: http://pdfserv.maxim-ic.com/en/ds/MAX8213-MAX8214.pdf
footprint NSO16_N (SOIC, 16-Leads, Body 9.9x3.9mm, Pitch 1.27mm, IPC Medium Density)
footprint NSO16_L (SOIC, 16-Leads, Body 9.9x3.9mm, Pitch 1.27mm, IPC High Density)
footprint NSO16_M (SOIC, 16-Leads, Body 9.9x3.9mm, Pitch 1.27mm, IPC Low Density)
3D model NSO16 (16-Pin Small Outline Integrated Circuit 1.27 mm Pitch)
pins: 1 VREF (out), 2 IN1 (in), 3 IN2 (in), 4 IN3+ (in), 5 IN3- (in), 6 IN4+ (in), 7 IN4- (in), 8 DIN (in), 9 GND (power), 10 D OUT (out), 11 OUT4 (out), 12 OUT3 (out), 13 OUT2 (out), 14 OUT1 (out), 15 MS (in), 16 VCC (power)

## MAX8214AMJE
designator U?
Five Universal Voltage Monitors-Complete Microprocessor Voltage Monitoring; Published: 16-Jan-2001; LatestRevisionDate: 29-May-2009; LatestRevisionNote: Component Body Added.; DatasheetVersion: Jul-1993; PackageVersion: 1996; PackageReference: JE16; Publisher: Altium Limited; PackageDescription: DIP, 16-Pin, Row Spacing 7.62 mm, Pitch 2.54 mm; ComponentLink1Description: Manufacturer Link; ComponentLink1URL: http://www.maxim-ic.com/; ComponentLink2Description: Datasheet; ComponentLink2URL: http://pdfserv.maxim-ic.com/en/ds/MAX8213-MAX8214.pdf
footprint JE16 (DIP, 16-Leads, Row Spacing 7.62mm, Pitch 2.54mm, Body 20.37x6.73mm)
3D model JE16 (DIP, 16-Pin, Row Spacing 7.62 mm, Pitch 2.54 mm)
pins: 1 VREF (out), 2 IN1 (in), 3 IN2 (in), 4 IN3+ (in), 5 IN3- (in), 6 IN4+ (in), 7 IN4- (in), 8 DIN (in), 9 GND (power), 10 D OUT (out), 11 OUT4 (out), 12 OUT3 (out), 13 OUT2 (out), 14 OUT1 (out), 15 MS (in), 16 VCC (power)

## MAX8214BCPE
designator U?
Five Universal Voltage Monitors-Complete Microprocessor Voltage Monitoring; Published: 16-Jan-2001; LatestRevisionDate: 29-May-2009; LatestRevisionNote: Component Body Added.; DatasheetVersion: Jul-1993; PackageVersion: 1997; PackageReference: PE16A; Publisher: Altium Limited; PackageDescription: DIP, 16-Pin, Row Spacing 7.62 mm, Pitch 2.54 mm; Code_JEDEC: MS-001-BB; ComponentLink1Description: Manufacturer Link; ComponentLink1URL: http://www.maxim-ic.com/; ComponentLink2Description: Datasheet; ComponentLink2URL: http://pdfserv.maxim-ic.com/en/ds/MAX8213-MAX8214.pdf
footprint PE16A (DIP, 16-Leads, Row Spacing 7.62mm, Pitch 2.54mm, Body 19.18x6.99mm)
3D model PE16 (DIP, 16-Pin, Row Spacing 7.62 mm, Pitch 2.54 mm)
pins: 1 VREF (out), 2 IN1 (in), 3 IN2 (in), 4 IN3+ (in), 5 IN3- (in), 6 IN4+ (in), 7 IN4- (in), 8 DIN (in), 9 GND (power), 10 D OUT (out), 11 OUT4 (out), 12 OUT3 (out), 13 OUT2 (out), 14 OUT1 (out), 15 MS (in), 16 VCC (power)

## MAX8214BCSE
designator U?
Five Universal Voltage Monitors-Complete Microprocessor Voltage Monitoring; Published: 16-Jan-2001; LatestRevisionDate: 13-Apr-2006; LatestRevisionNote: IPC-7351 Footprint Added.; DatasheetVersion: Jul-1993; PackageReference: NSO16; Publisher: Altium Limited; PackageDescription: 16-Pin Small Outline Integrated Circuit 1.27 mm Pitch; Code_JEDEC: MS-012-AC; Code_IPC: SOIC127P600-16; ComponentLink1Description: Manufacturer Link; ComponentLink1URL: http://www.maxim-ic.com/; ComponentLink2Description: Datasheet; ComponentLink2URL: http://pdfserv.maxim-ic.com/en/ds/MAX8213-MAX8214.pdf
footprint NSO16_N (SOIC, 16-Leads, Body 9.9x3.9mm, Pitch 1.27mm, IPC Medium Density)
footprint NSO16_L (SOIC, 16-Leads, Body 9.9x3.9mm, Pitch 1.27mm, IPC High Density)
footprint NSO16_M (SOIC, 16-Leads, Body 9.9x3.9mm, Pitch 1.27mm, IPC Low Density)
3D model NSO16 (16-Pin Small Outline Integrated Circuit 1.27 mm Pitch)
pins: 1 VREF (out), 2 IN1 (in), 3 IN2 (in), 4 IN3+ (in), 5 IN3- (in), 6 IN4+ (in), 7 IN4- (in), 8 DIN (in), 9 GND (power), 10 D OUT (out), 11 OUT4 (out), 12 OUT3 (out), 13 OUT2 (out), 14 OUT1 (out), 15 MS (in), 16 VCC (power)

## MAX8214BEPE
designator U?
Five Universal Voltage Monitors-Complete Microprocessor Voltage Monitoring; Published: 16-Jan-2001; LatestRevisionDate: 29-May-2009; LatestRevisionNote: Component Body Added.; DatasheetVersion: Jul-1993; PackageVersion: 1997; PackageReference: PE16A; Publisher: Altium Limited; PackageDescription: DIP, 16-Pin, Row Spacing 7.62 mm, Pitch 2.54 mm; Code_JEDEC: MS-001-BB; ComponentLink1Description: Manufacturer Link; ComponentLink1URL: http://www.maxim-ic.com/; ComponentLink2Description: Datasheet; ComponentLink2URL: http://pdfserv.maxim-ic.com/en/ds/MAX8213-MAX8214.pdf
footprint PE16A (DIP, 16-Leads, Row Spacing 7.62mm, Pitch 2.54mm, Body 19.18x6.99mm)
3D model PE16 (DIP, 16-Pin, Row Spacing 7.62 mm, Pitch 2.54 mm)
pins: 1 VREF (out), 2 IN1 (in), 3 IN2 (in), 4 IN3+ (in), 5 IN3- (in), 6 IN4+ (in), 7 IN4- (in), 8 DIN (in), 9 GND (power), 10 D OUT (out), 11 OUT4 (out), 12 OUT3 (out), 13 OUT2 (out), 14 OUT1 (out), 15 MS (in), 16 VCC (power)

## MAX8214BESE
designator U?
Five Universal Voltage Monitors-Complete Microprocessor Voltage Monitoring; Published: 16-Jan-2001; LatestRevisionDate: 13-Apr-2006; LatestRevisionNote: IPC-7351 Footprint Added.; DatasheetVersion: Jul-1993; PackageReference: NSO16; Publisher: Altium Limited; PackageDescription: 16-Pin Small Outline Integrated Circuit 1.27 mm Pitch; Code_JEDEC: MS-012-AC; Code_IPC: SOIC127P600-16; ComponentLink1Description: Manufacturer Link; ComponentLink1URL: http://www.maxim-ic.com/; ComponentLink2Description: Datasheet; ComponentLink2URL: http://pdfserv.maxim-ic.com/en/ds/MAX8213-MAX8214.pdf
footprint NSO16_N (SOIC, 16-Leads, Body 9.9x3.9mm, Pitch 1.27mm, IPC Medium Density)
footprint NSO16_L (SOIC, 16-Leads, Body 9.9x3.9mm, Pitch 1.27mm, IPC High Density)
footprint NSO16_M (SOIC, 16-Leads, Body 9.9x3.9mm, Pitch 1.27mm, IPC Low Density)
3D model NSO16 (16-Pin Small Outline Integrated Circuit 1.27 mm Pitch)
pins: 1 VREF (out), 2 IN1 (in), 3 IN2 (in), 4 IN3+ (in), 5 IN3- (in), 6 IN4+ (in), 7 IN4- (in), 8 DIN (in), 9 GND (power), 10 D OUT (out), 11 OUT4 (out), 12 OUT3 (out), 13 OUT2 (out), 14 OUT1 (out), 15 MS (in), 16 VCC (power)

## MAX8214BMJE
designator U?
Five Universal Voltage Monitors-Complete Microprocessor Voltage Monitoring; Published: 16-Jan-2001; LatestRevisionDate: 29-May-2009; LatestRevisionNote: Component Body Added.; DatasheetVersion: Jul-1993; PackageVersion: 1996; PackageReference: JE16; Publisher: Altium Limited; PackageDescription: DIP, 16-Pin, Row Spacing 7.62 mm, Pitch 2.54 mm; ComponentLink1Description: Manufacturer Link; ComponentLink1URL: http://www.maxim-ic.com/; ComponentLink2Description: Datasheet; ComponentLink2URL: http://pdfserv.maxim-ic.com/en/ds/MAX8213-MAX8214.pdf
footprint JE16 (DIP, 16-Leads, Row Spacing 7.62mm, Pitch 2.54mm, Body 20.37x6.73mm)
3D model JE16 (DIP, 16-Pin, Row Spacing 7.62 mm, Pitch 2.54 mm)
pins: 1 VREF (out), 2 IN1 (in), 3 IN2 (in), 4 IN3+ (in), 5 IN3- (in), 6 IN4+ (in), 7 IN4- (in), 8 DIN (in), 9 GND (power), 10 D OUT (out), 11 OUT4 (out), 12 OUT3 (out), 13 OUT2 (out), 14 OUT1 (out), 15 MS (in), 16 VCC (power)

## MAX8215CPD
designator U?
±12V Dedicated Microprocessor Voltage Monitor; Published: 16-Jan-2001; LatestRevisionDate: 29-May-2009; LatestRevisionNote: Component Body Added.; DatasheetVersion: Aug-1993; PackageVersion: RevB, 21-0043; PackageReference: PD14; Publisher: Altium Limited; PackageDescription: DIP, 14-Pin, Row Spacing 7.62 mm, Pitch 2.54 mm; Code_JEDEC: MS-001-AC; ComponentLink1Description: Manufacturer Link; ComponentLink1URL: http://www.maxim-ic.com/; ComponentLink2Description: Datasheet; ComponentLink2URL: http://pdfserv.maxim-ic.com/en/ds/MAX8215-MAX8216.pdf
footprint PD14 (DIP, 14-Leads, Row Spacing 7.62mm, Pitch 2.54mm, Body 19.05x7.24mm)
3D model PD14 (DIP, 14-Pin, Row Spacing 7.62 mm, Pitch 2.54 mm)
pins: 1 VREF (out), 2 GND (power), 3 +5V (in), 4 -5V (in), 5 +12V (in), 6 -12V (in), 7 DIN (in), 8 PGND (power), 9 DOUT (oc), 10 OUT4 (oc), 11 OUT3 (oc), 12 OUT2 (oc), 13 OUT1 (oc), 14 VCC (power)

## MAX8215CSD
designator U?
±12V Dedicated Microprocessor Voltage Monitor; Published: 16-Jan-2001; LatestRevisionDate: 13-Apr-2006; LatestRevisionNote: IPC-7351 Footprint Added.; DatasheetVersion: Aug-1993; PackageReference: NSO14; Publisher: Altium Limited; PackageDescription: 14-Pin Small Outline Integrated Circuit 1.27 mm Pitch; Code_JEDEC: MS-012-AB; Code_IPC: SOIC127P600-14; ComponentLink1Description: Manufacturer Link; ComponentLink1URL: http://www.maxim-ic.com/; ComponentLink2Description: Datasheet; ComponentLink2URL: http://pdfserv.maxim-ic.com/en/ds/MAX8215-MAX8216.pdf
footprint NSO14_N (SOIC, 14-Leads, Body 8.7x3.9mm, Pitch 1.27mm, IPC Medium Density)
footprint NSO14_L (SOIC, 14-Leads, Body 8.7x3.9mm, Pitch 1.27mm, IPC High Density)
footprint NSO14_M (SOIC, 14-Leads, Body 8.7x3.9mm, Pitch 1.27mm, IPC Low Density)
3D model NSO14 (14-Pin Small Outline Integrated Circuit 1.27 mm Pitch)
pins: 1 VREF (out), 2 GND (power), 3 +5V (in), 4 -5V (in), 5 +12V (in), 6 -12V (in), 7 DIN (in), 8 PGND (power), 9 DOUT (oc), 10 OUT4 (oc), 11 OUT3 (oc), 12 OUT2 (oc), 13 OUT1 (oc), 14 VCC (power)

## MAX8215EJD
designator U?
±12V Dedicated Microprocessor Voltage Monitor; Published: 16-Jan-2001; LatestRevisionDate: 29-May-2009; LatestRevisionNote: Component Body Added.; DatasheetVersion: Aug-1993; PackageVersion: 1996; PackageReference: JD14; Publisher: Altium Limited; PackageDescription: DIP, 14-Pin, Row Spacing 7.62 mm, Pitch 2.54 mm; ComponentLink1Description: Manufacturer Link; ComponentLink1URL: http://www.maxim-ic.com/; ComponentLink2Description: Datasheet; ComponentLink2URL: http://pdfserv.maxim-ic.com/en/ds/MAX8215-MAX8216.pdf
footprint JD14 (DIP, 14-Leads, Row Spacing 7.62mm, Pitch 2.54mm, Body 19.56x6.73mm)
3D model JD14 (DIP, 14-Pin, Row Spacing 7.62 mm, Pitch 2.54 mm)
pins: 1 VREF (out), 2 GND (power), 3 +5V (in), 4 -5V (in), 5 +12V (in), 6 -12V (in), 7 DIN (in), 8 PGND (power), 9 DOUT (oc), 10 OUT4 (oc), 11 OUT3 (oc), 12 OUT2 (oc), 13 OUT1 (oc), 14 VCC (power)

## MAX8215EPD
designator U?
±12V Dedicated Microprocessor Voltage Monitor; Published: 16-Jan-2001; LatestRevisionDate: 29-May-2009; LatestRevisionNote: Component Body Added.; DatasheetVersion: Aug-1993; PackageVersion: RevB, 21-0043; PackageReference: PD14; Publisher: Altium Limited; PackageDescription: DIP, 14-Pin, Row Spacing 7.62 mm, Pitch 2.54 mm; Code_JEDEC: MS-001-AC; ComponentLink1Description: Manufacturer Link; ComponentLink1URL: http://www.maxim-ic.com/; ComponentLink2Description: Datasheet; ComponentLink2URL: http://pdfserv.maxim-ic.com/en/ds/MAX8215-MAX8216.pdf
footprint PD14 (DIP, 14-Leads, Row Spacing 7.62mm, Pitch 2.54mm, Body 19.05x7.24mm)
3D model PD14 (DIP, 14-Pin, Row Spacing 7.62 mm, Pitch 2.54 mm)
pins: 1 VREF (out), 2 GND (power), 3 +5V (in), 4 -5V (in), 5 +12V (in), 6 -12V (in), 7 DIN (in), 8 PGND (power), 9 DOUT (oc), 10 OUT4 (oc), 11 OUT3 (oc), 12 OUT2 (oc), 13 OUT1 (oc), 14 VCC (power)

## MAX8215ESD
designator U?
±12V Dedicated Microprocessor Voltage Monitor; Published: 16-Jan-2001; LatestRevisionDate: 13-Apr-2006; LatestRevisionNote: IPC-7351 Footprint Added.; DatasheetVersion: Aug-1993; PackageReference: NSO14; Publisher: Altium Limited; PackageDescription: 14-Pin Small Outline Integrated Circuit 1.27 mm Pitch; Code_JEDEC: MS-012-AB; Code_IPC: SOIC127P600-14; ComponentLink1Description: Manufacturer Link; ComponentLink1URL: http://www.maxim-ic.com/; ComponentLink2Description: Datasheet; ComponentLink2URL: http://pdfserv.maxim-ic.com/en/ds/MAX8215-MAX8216.pdf
footprint NSO14_N (SOIC, 14-Leads, Body 8.7x3.9mm, Pitch 1.27mm, IPC Medium Density)
footprint NSO14_L (SOIC, 14-Leads, Body 8.7x3.9mm, Pitch 1.27mm, IPC High Density)
footprint NSO14_M (SOIC, 14-Leads, Body 8.7x3.9mm, Pitch 1.27mm, IPC Low Density)
3D model NSO14 (14-Pin Small Outline Integrated Circuit 1.27 mm Pitch)
pins: 1 VREF (out), 2 GND (power), 3 +5V (in), 4 -5V (in), 5 +12V (in), 6 -12V (in), 7 DIN (in), 8 PGND (power), 9 DOUT (oc), 10 OUT4 (oc), 11 OUT3 (oc), 12 OUT2 (oc), 13 OUT1 (oc), 14 VCC (power)

## MAX8215MJD
designator U?
±12V Dedicated Microprocessor Voltage Monitor; Published: 16-Jan-2001; LatestRevisionDate: 29-May-2009; LatestRevisionNote: Component Body Added.; DatasheetVersion: Aug-1993; PackageVersion: 1996; PackageReference: JD14; Publisher: Altium Limited; PackageDescription: DIP, 14-Pin, Row Spacing 7.62 mm, Pitch 2.54 mm; ComponentLink1Description: Manufacturer Link; ComponentLink1URL: http://www.maxim-ic.com/; ComponentLink2Description: Datasheet; ComponentLink2URL: http://pdfserv.maxim-ic.com/en/ds/MAX8215-MAX8216.pdf
footprint JD14 (DIP, 14-Leads, Row Spacing 7.62mm, Pitch 2.54mm, Body 19.56x6.73mm)
3D model JD14 (DIP, 14-Pin, Row Spacing 7.62 mm, Pitch 2.54 mm)
pins: 1 VREF (out), 2 GND (power), 3 +5V (in), 4 -5V (in), 5 +12V (in), 6 -12V (in), 7 DIN (in), 8 PGND (power), 9 DOUT (oc), 10 OUT4 (oc), 11 OUT3 (oc), 12 OUT2 (oc), 13 OUT1 (oc), 14 VCC (power)

## MAX8215MPD
designator U?
±12V Dedicated Microprocessor Voltage Monitor; Published: 16-Jan-2001; LatestRevisionDate: 29-May-2009; LatestRevisionNote: Component Body Added.; DatasheetVersion: Aug-1993; PackageVersion: RevB, 21-0043; PackageReference: PD14; Publisher: Altium Limited; PackageDescription: DIP, 14-Pin, Row Spacing 7.62 mm, Pitch 2.54 mm; Code_JEDEC: MS-001-AC; ComponentLink1Description: Manufacturer Link; ComponentLink1URL: http://www.maxim-ic.com/; ComponentLink2Description: Datasheet; ComponentLink2URL: http://pdfserv.maxim-ic.com/en/ds/MAX8215-MAX8216.pdf
footprint PD14 (DIP, 14-Leads, Row Spacing 7.62mm, Pitch 2.54mm, Body 19.05x7.24mm)
3D model PD14 (DIP, 14-Pin, Row Spacing 7.62 mm, Pitch 2.54 mm)
pins: 1 VREF (out), 2 GND (power), 3 +5V (in), 4 -5V (in), 5 +12V (in), 6 -12V (in), 7 DIN (in), 8 PGND (power), 9 DOUT (oc), 10 OUT4 (oc), 11 OUT3 (oc), 12 OUT2 (oc), 13 OUT1 (oc), 14 VCC (power)

## MAX8216CPD
designator U?
±15V Dedicated Microprocessor Voltage Monitor; Published: 16-Jan-2001; LatestRevisionDate: 29-May-2009; LatestRevisionNote: Component Body Added.; DatasheetVersion: Aug-1993; PackageVersion: RevB, 21-0043; PackageReference: PD14; Publisher: Altium Limited; PackageDescription: DIP, 14-Pin, Row Spacing 7.62 mm, Pitch 2.54 mm; Code_JEDEC: MS-001-AC; ComponentLink1Description: Manufacturer Link; ComponentLink1URL: http://www.maxim-ic.com/; ComponentLink2Description: Datasheet; ComponentLink2URL: http://pdfserv.maxim-ic.com/en/ds/MAX8215-MAX8216.pdf
footprint PD14 (DIP, 14-Leads, Row Spacing 7.62mm, Pitch 2.54mm, Body 19.05x7.24mm)
3D model PD14 (DIP, 14-Pin, Row Spacing 7.62 mm, Pitch 2.54 mm)
pins: 1 VREF (out), 2 GND (power), 3 +5V (in), 4 -5V (in), 5 +15V (in), 6 -15V (in), 7 DIN (in), 8 PGND (power), 9 DOUT (oc), 10 OUT4 (oc), 11 OUT3 (oc), 12 OUT2 (oc), 13 OUT1 (oc), 14 VCC (power)

## MAX8216CSD
designator U?
±15V Dedicated Microprocessor Voltage Monitor; Published: 16-Jan-2001; LatestRevisionDate: 13-Apr-2006; LatestRevisionNote: IPC-7351 Footprint Added.; DatasheetVersion: Aug-1993; PackageReference: NSO14; Publisher: Altium Limited; PackageDescription: 14-Pin Small Outline Integrated Circuit 1.27 mm Pitch; Code_JEDEC: MS-012-AB; Code_IPC: SOIC127P600-14; ComponentLink1Description: Manufacturer Link; ComponentLink1URL: http://www.maxim-ic.com/; ComponentLink2Description: Datasheet; ComponentLink2URL: http://pdfserv.maxim-ic.com/en/ds/MAX8215-MAX8216.pdf
footprint NSO14_N (SOIC, 14-Leads, Body 8.7x3.9mm, Pitch 1.27mm, IPC Medium Density)
footprint NSO14_L (SOIC, 14-Leads, Body 8.7x3.9mm, Pitch 1.27mm, IPC High Density)
footprint NSO14_M (SOIC, 14-Leads, Body 8.7x3.9mm, Pitch 1.27mm, IPC Low Density)
3D model NSO14 (14-Pin Small Outline Integrated Circuit 1.27 mm Pitch)
pins: 1 VREF (out), 2 GND (power), 3 +5V (in), 4 -5V (in), 5 +15V (in), 6 -15V (in), 7 DIN (in), 8 PGND (power), 9 DOUT (oc), 10 OUT4 (oc), 11 OUT3 (oc), 12 OUT2 (oc), 13 OUT1 (oc), 14 VCC (power)

## MAX8216EJD
designator U?
±15V Dedicated Microprocessor Voltage Monitor; Published: 16-Jan-2001; LatestRevisionDate: 29-May-2009; LatestRevisionNote: Component Body Added.; DatasheetVersion: Aug-1993; PackageVersion: 1996; PackageReference: JD14; Publisher: Altium Limited; PackageDescription: DIP, 14-Pin, Row Spacing 7.62 mm, Pitch 2.54 mm; ComponentLink1Description: Manufacturer Link; ComponentLink1URL: http://www.maxim-ic.com/; ComponentLink2Description: Datasheet; ComponentLink2URL: http://pdfserv.maxim-ic.com/en/ds/MAX8215-MAX8216.pdf
footprint JD14 (DIP, 14-Leads, Row Spacing 7.62mm, Pitch 2.54mm, Body 19.56x6.73mm)
3D model JD14 (DIP, 14-Pin, Row Spacing 7.62 mm, Pitch 2.54 mm)
pins: 1 VREF (out), 2 GND (power), 3 +5V (in), 4 -5V (in), 5 +15V (in), 6 -15V (in), 7 DIN (in), 8 PGND (power), 9 DOUT (oc), 10 OUT4 (oc), 11 OUT3 (oc), 12 OUT2 (oc), 13 OUT1 (oc), 14 VCC (power)

## MAX8216EPD
designator U?
±15V Dedicated Microprocessor Voltage Monitor; Published: 16-Jan-2001; LatestRevisionDate: 29-May-2009; LatestRevisionNote: Component Body Added.; DatasheetVersion: Aug-1993; PackageVersion: RevB, 21-0043; PackageReference: PD14; Publisher: Altium Limited; PackageDescription: DIP, 14-Pin, Row Spacing 7.62 mm, Pitch 2.54 mm; Code_JEDEC: MS-001-AC; ComponentLink1Description: Manufacturer Link; ComponentLink1URL: http://www.maxim-ic.com/; ComponentLink2Description: Datasheet; ComponentLink2URL: http://pdfserv.maxim-ic.com/en/ds/MAX8215-MAX8216.pdf
footprint PD14 (DIP, 14-Leads, Row Spacing 7.62mm, Pitch 2.54mm, Body 19.05x7.24mm)
3D model PD14 (DIP, 14-Pin, Row Spacing 7.62 mm, Pitch 2.54 mm)
pins: 1 VREF (out), 2 GND (power), 3 +5V (in), 4 -5V (in), 5 +15V (in), 6 -15V (in), 7 DIN (in), 8 PGND (power), 9 DOUT (oc), 10 OUT4 (oc), 11 OUT3 (oc), 12 OUT2 (oc), 13 OUT1 (oc), 14 VCC (power)

## MAX8216ESD
designator U?
±15V Dedicated Microprocessor Voltage Monitor; Published: 16-Jan-2001; LatestRevisionDate: 13-Apr-2006; LatestRevisionNote: IPC-7351 Footprint Added.; DatasheetVersion: Aug-1993; PackageReference: NSO14; Publisher: Altium Limited; PackageDescription: 14-Pin Small Outline Integrated Circuit 1.27 mm Pitch; Code_JEDEC: MS-012-AB; Code_IPC: SOIC127P600-14; ComponentLink1Description: Manufacturer Link; ComponentLink1URL: http://www.maxim-ic.com/; ComponentLink2Description: Datasheet; ComponentLink2URL: http://pdfserv.maxim-ic.com/en/ds/MAX8215-MAX8216.pdf
footprint NSO14_N (SOIC, 14-Leads, Body 8.7x3.9mm, Pitch 1.27mm, IPC Medium Density)
footprint NSO14_L (SOIC, 14-Leads, Body 8.7x3.9mm, Pitch 1.27mm, IPC High Density)
footprint NSO14_M (SOIC, 14-Leads, Body 8.7x3.9mm, Pitch 1.27mm, IPC Low Density)
3D model NSO14 (14-Pin Small Outline Integrated Circuit 1.27 mm Pitch)
pins: 1 VREF (out), 2 GND (power), 3 +5V (in), 4 -5V (in), 5 +15V (in), 6 -15V (in), 7 DIN (in), 8 PGND (power), 9 DOUT (oc), 10 OUT4 (oc), 11 OUT3 (oc), 12 OUT2 (oc), 13 OUT1 (oc), 14 VCC (power)

## MAX8216MJD
designator U?
±15V Dedicated Microprocessor Voltage Monitor; Published: 16-Jan-2001; LatestRevisionDate: 29-May-2009; LatestRevisionNote: Component Body Added.; DatasheetVersion: Aug-1993; PackageVersion: 1996; PackageReference: JD14; Publisher: Altium Limited; PackageDescription: DIP, 14-Pin, Row Spacing 7.62 mm, Pitch 2.54 mm; ComponentLink1Description: Manufacturer Link; ComponentLink1URL: http://www.maxim-ic.com/; ComponentLink2Description: Datasheet; ComponentLink2URL: http://pdfserv.maxim-ic.com/en/ds/MAX8215-MAX8216.pdf
footprint JD14 (DIP, 14-Leads, Row Spacing 7.62mm, Pitch 2.54mm, Body 19.56x6.73mm)
3D model JD14 (DIP, 14-Pin, Row Spacing 7.62 mm, Pitch 2.54 mm)
pins: 1 VREF (out), 2 GND (power), 3 +5V (in), 4 -5V (in), 5 +15V (in), 6 -15V (in), 7 DIN (in), 8 PGND (power), 9 DOUT (oc), 10 OUT4 (oc), 11 OUT3 (oc), 12 OUT2 (oc), 13 OUT1 (oc), 14 VCC (power)